# EAGLE library part DSPIC33FJ256GP710 (library microchip)
dsPIC33FJ256GP710_TQFP edit this description Auto generated by make-symbol-device-package-bsdl.ulp Rev. 41 Source: dsPIC33FJ256GP710_TQFP.bsd
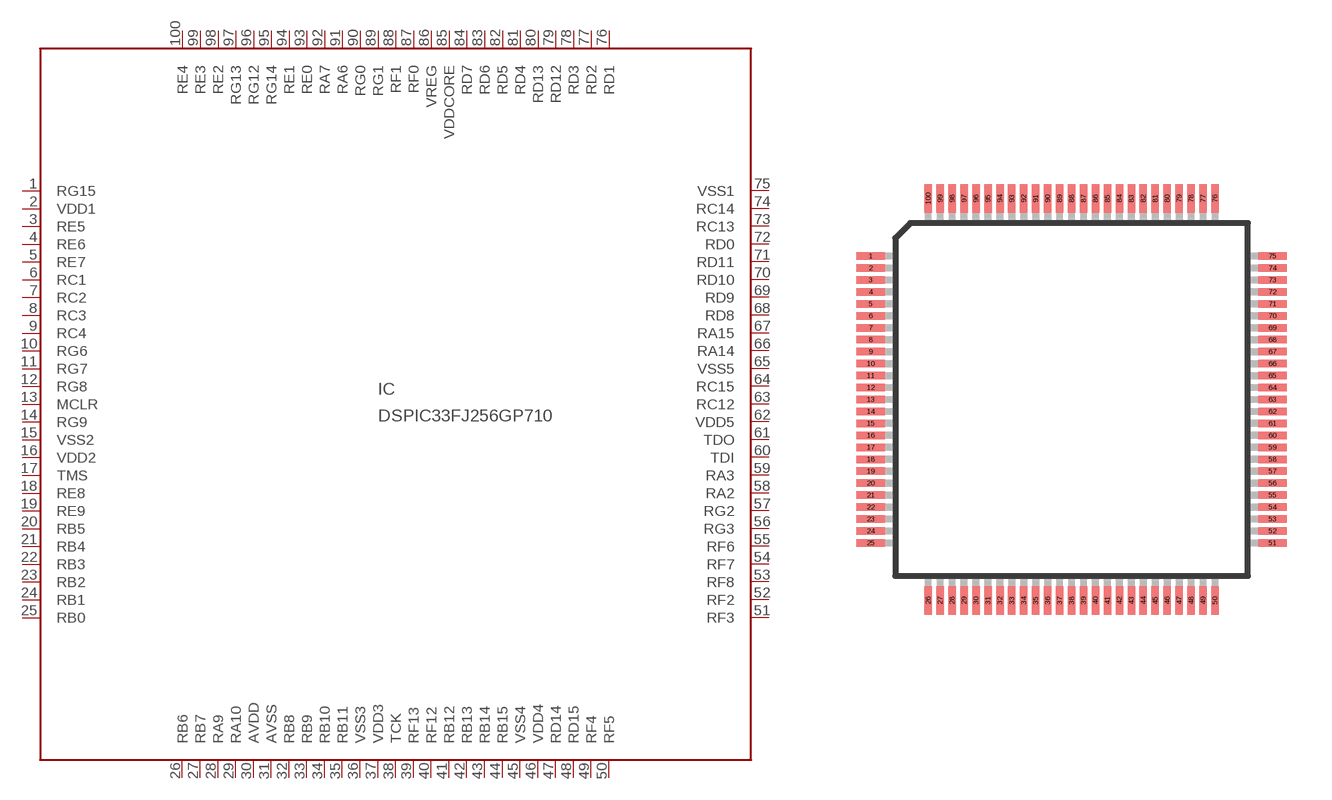
[diagram p136: symbol with the pads of TQFP100-12X12; footprint TQFP100-12X12]

Designator prefix IC

## DSPIC33FJ256GP710  [TQFP100-12X12]
1  RG15
2  VDD1  pwr
3  RE5
4  RE6
5  RE7
6  RC1
7  RC2
8  RC3
9  RC4
10  RG6
11  RG7
12  RG8
13  MCLR
14  RG9
15  VSS2  pwr
16  VDD2  pwr
17  TMS  in
18  RE8
19  RE9
20  RB5
21  RB4
22  RB3
23  RB2
24  RB1
25  RB0
26  RB6
27  RB7
28  RA9
29  RA10
30  AVDD  pwr
31  AVSS  pwr
32  RB8
33  RB9
34  RB10
35  RB11
36  VSS3  pwr
37  VDD3  pwr
38  TCK  in
39  RF13
40  RF12
41  RB12
42  RB13
43  RB14
44  RB15
45  VSS4  pwr
46  VDD4  pwr
47  RD14
48  RD15
49  RF4
50  RF5
51  RF3
52  RF2
53  RF8
54  RF7
55  RF6
56  RG3
57  RG2
58  RA2
59  RA3
60  TDI  in
61  TDO  out
62  VDD5  pwr
63  RC12
64  RC15
65  VSS5  pwr
66  RA14
67  RA15
68  RD8
69  RD9
70  RD10
71  RD11
72  RD0
73  RC13
74  RC14
75  VSS1  pwr
76  RD1
77  RD2
78  RD3
79  RD12
80  RD13
81  RD4
82  RD5
83  RD6
84  RD7
85  VDDCORE  pwr
86  VREG  pas
87  RF0
88  RF1
89  RG1
90  RG0
91  RA6
92  RA7
93  RE0
94  RE1
95  RG14
96  RG12
97  RG13
98  RE2
99  RE3
100  RE4

## Footprint TQFP100-12X12 (pad centres in mm)
TQFP100_12X12 Auto generated by make-symbol-device-package-bsdl.ulp Rev. 41
smd 0.95 x 0.25: 1 -6.725,4.8; 2 -6.725,4.4; 3 -6.725,4; 4 -6.725,3.6; 5 -6.725,3.2; 6 -6.725,2.8; 7 -6.725,2.4; 8 -6.725,2; 9 -6.725,1.6; 10 -6.725,1.2; 11 -6.725,0.8; 12 -6.725,0.4; 13 -6.725,0; 14 -6.725,-0.4; 15 -6.725,-0.8; 16 -6.725,-1.2; 17 -6.725,-1.6; 18 -6.725,-2; 19 -6.725,-2.4; 20 -6.725,-2.8; 21 -6.725,-3.2; 22 -6.725,-3.6; 23 -6.725,-4; 24 -6.725,-4.4; 25 -6.725,-4.8; 51 6.725,-4.8; 52 6.725,-4.4; 53 6.725,-4; 54 6.725,-3.6; 55 6.725,-3.2; 56 6.725,-2.8; 57 6.725,-2.4; 58 6.725,-2; 59 6.725,-1.6; 60 6.725,-1.2; 61 6.725,-0.8; 62 6.725,-0.4; 63 6.725,0; 64 6.725,0.4; 65 6.725,0.8; 66 6.725,1.2; 67 6.725,1.6; 68 6.725,2; 69 6.725,2.4; 70 6.725,2.8; 71 6.725,3.2; 72 6.725,3.6; 73 6.725,4; 74 6.725,4.4; 75 6.725,4.8
smd 0.25 x 0.95: 26 -4.8,-6.725; 27 -4.4,-6.725; 28 -4,-6.725; 29 -3.6,-6.725; 30 -3.2,-6.725; 31 -2.8,-6.725; 32 -2.4,-6.725; 33 -2,-6.725; 34 -1.6,-6.725; 35 -1.2,-6.725; 36 -0.8,-6.725; 37 -0.4,-6.725; 38 0,-6.725; 39 0.4,-6.725; 40 0.8,-6.725; 41 1.2,-6.725; 42 1.6,-6.725; 43 2,-6.725; 44 2.4,-6.725; 45 2.8,-6.725; 46 3.2,-6.725; 47 3.6,-6.725; 48 4,-6.725; 49 4.4,-6.725; 50 4.8,-6.725; 76 4.8,6.725; 77 4.4,6.725; 78 4,6.725; 79 3.6,6.725; 80 3.2,6.725; 81 2.8,6.725; 82 2.4,6.725; 83 2,6.725; 84 1.6,6.725; 85 1.2,6.725; 86 0.8,6.725; 87 0.4,6.725; 88 0,6.725; 89 -0.4,6.725; 90 -0.8,6.725; 91 -1.2,6.725; 92 -1.6,6.725; 93 -2,6.725; 94 -2.4,6.725; 95 -2.8,6.725; 96 -3.2,6.725; 97 -3.6,6.725; 98 -4,6.725; 99 -4.4,6.725; 100 -4.8,6.725